# EAGLE library part TLW-109-05-T-S (library SAMTEC-Txx_By_element14_Batch_1)
CONNECTOR HEADER, 9 WAY, 1ROW
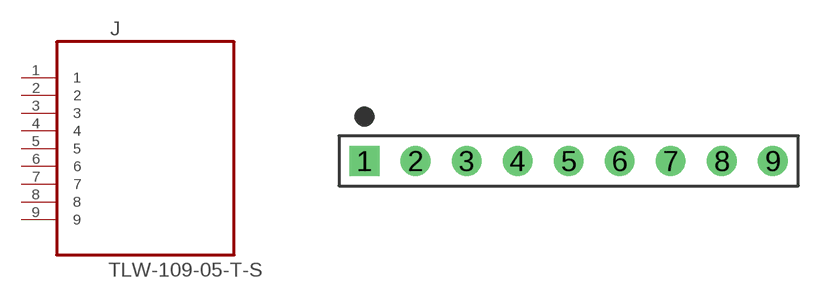
[diagram p167: symbol with the pads of SAMTEC_TLW-109-05-T-S; footprint SAMTEC_TLW-109-05-T-S]

Designator prefix J

## TLW-109-05-T-S (MPN: TLW-109-05-T-S; OC_FARNELL: -; OC_NEWARK: 12P0431; PACKAGE: CONN HEADER 9 POS .100 inch; SUPPLIER: SAMTEC)  [SAMTEC_TLW-109-05-T-S]
1  1  pas
2  2  pas
3  3  pas
4  4  pas
5  5  pas
6  6  pas
7  7  pas
8  8  pas
9  9  pas

## Footprint SAMTEC_TLW-109-05-T-S (pad centres in mm)
drill 0.965 square: 1 -20.32,0
drill 0.965: 2 -17.78,0; 3 -15.24,0; 4 -12.7,0; 5 -10.16,0; 6 -7.62,0; 7 -5.08,0; 8 -2.54,0; 9 0,0